# Altium footprint library Altium LCOGT PCB LIB.PCBLIB: 329 footprints (part 12 of 21)
Each footprint in its own frame and in the unit in brackets; x right, y up, seen from the top. Pads: shape width x height; smd on the part's side, far side on the other; paste and mask are expansions set on the pad; w line width, h text height; cw(c..) or ccw(c..) is an arc to the next point about the centre after c.
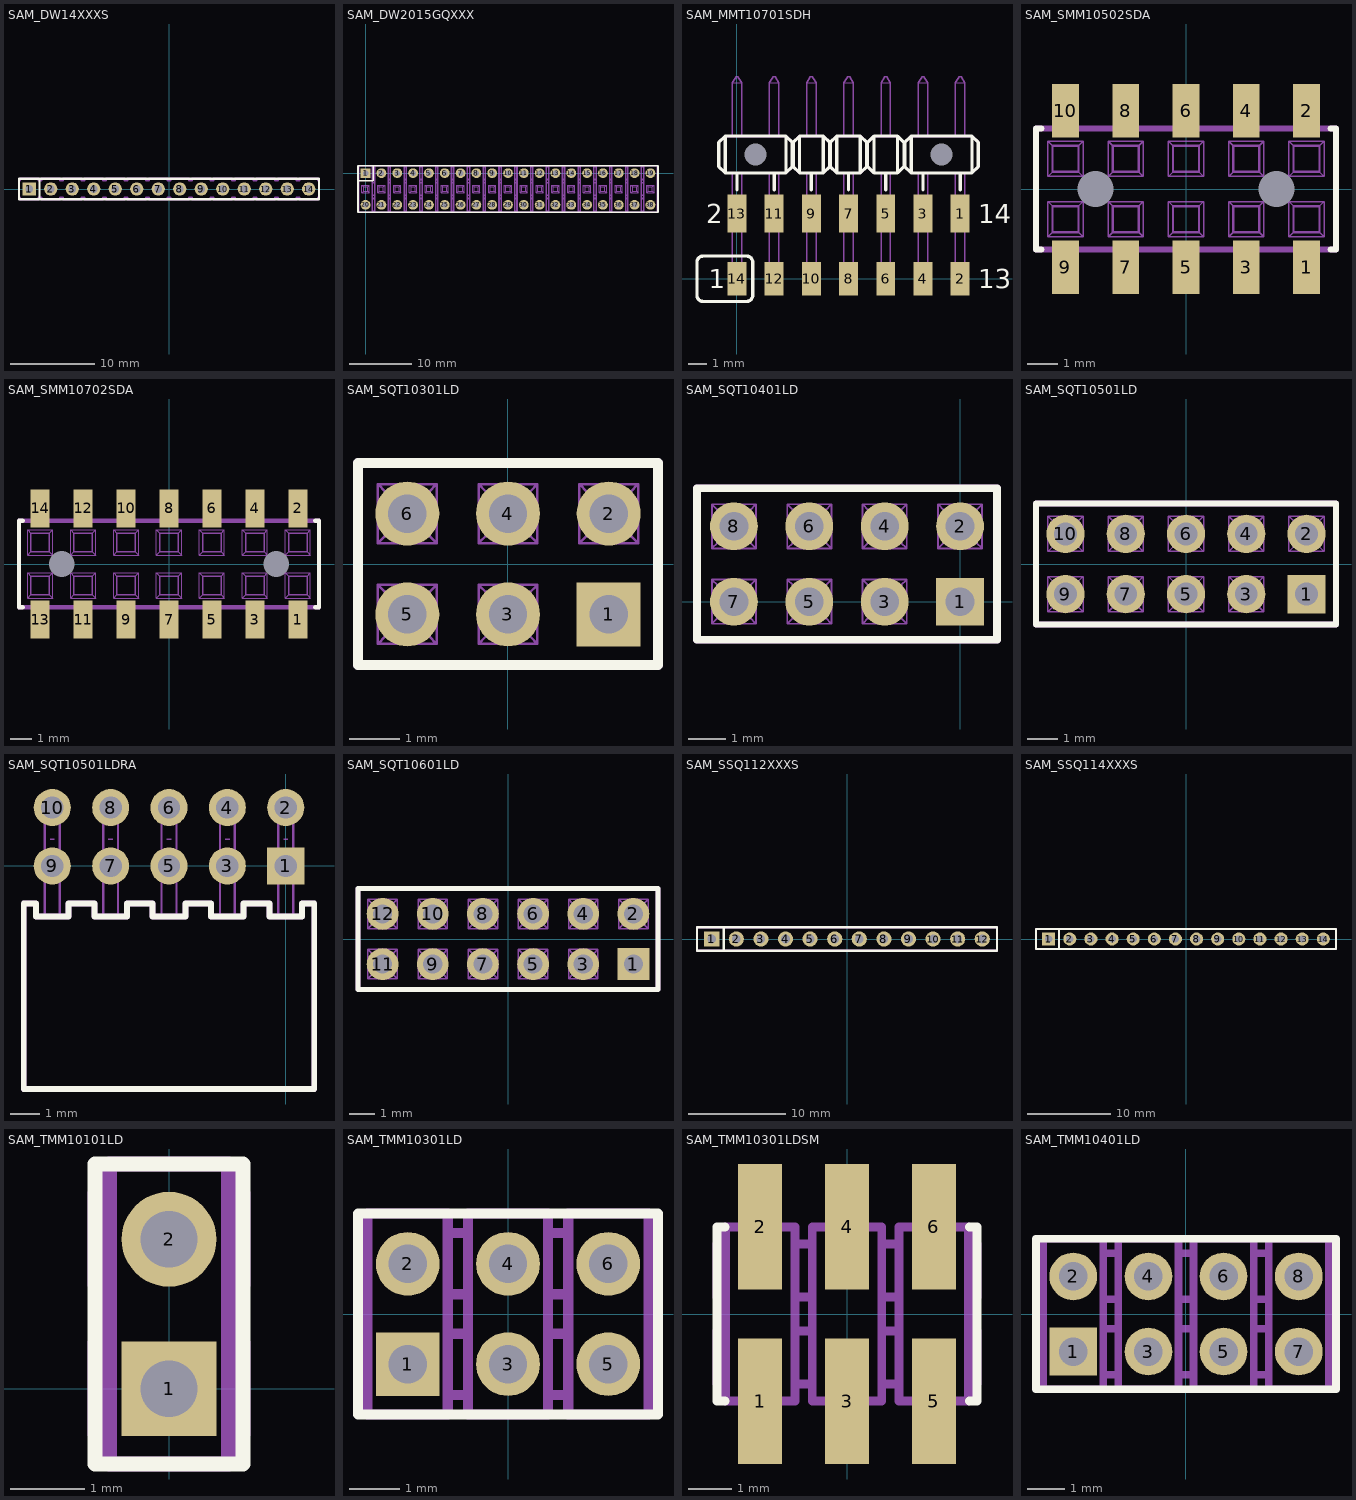
[diagram p11: the footprints below, top view; thin cyan lines are the x and y axes]

## SAM_DW14XXXS [mil] "Samtec board stacker header .100"
pads (14):
  rect 62x62 hole 35: 1(-650,0)
  round 62 hole 35: 2(-550,0) 3(-450,0) 4(-350,0) 5(-250,0) 6(-150,0) 7(-50,0) 8(50,0) 9(150,0) 10(250,0) 11(350,0) 12(450,0) 13(550,0) 14(650,0)
TopOverlay:
  lines w10: -602,-48 698,-48 698,48 -602,48 ; -602,-48 -698,-48 -698,48 -602,48 ; -602,-48 -602,48
Mechanical3:
  drawing of 230 lines, arcs and shapes, not listed

## SAM_DW2015GQXXX [mil]
pads (38):
  rect 62x62 hole 35: 1(0,0)
  round 62 hole 35: 2(100,0) 3(200,0) 4(300,0) 5(400,0) 6(500,0) 7(600,0) 8(700,0) 9(800,0) 10(900,0) 11(1000,0) 12(1100,0) 13(1200,0) 14(1300,0) 15(1400,0) 16(1500,0) 17(1600,0) 18(1700,0) 19(1800,0) 20(0,-200) 21(100,-200) 22(200,-200) 23(300,-200) 24(400,-200) 25(500,-200) 26(600,-200) 27(700,-200) 28(800,-200) 29(900,-200) 30(1000,-200) 31(1100,-200) 32(1200,-200) 33(1300,-200) 34(1400,-200) 35(1500,-200) 36(1600,-200) 37(1700,-200) 38(1800,-200)
TopOverlay:
  lines w10: -48,-48 48,-48 48,48 ; -48,-248 -48,48 1848,48 1848,-248 -48,-248
Mechanical3:
  drawing of 886 lines, arcs and shapes, not listed

## SAM_MMT10701SDH [mil]
pads (16):
  rect 40x80 smd: 1(472.44,138) 3(393.7,138) 5(314.96,138) 7(236.22,138) 9(157.48,138) 11(78.74,138) 13(0,138)
  rect 40x70 smd: 2(472.44,0) 4(393.7,0) 6(314.96,0) 8(236.22,0) 10(157.48,0) 12(78.74,0) 14(0,0)
  round 20 hole 47 unplated: ""(39.37,263)
  round 24 hole 47 unplated: ""(433.07,263)
TopOverlay:
  lines w7: 0,188 0,224 ; 78.74,188 78.74,224 ; 157.48,188 157.48,224 ; 236.22,188 236.22,224 ; 314.96,188 314.96,224 ; 393.7,188 393.7,224 ; 472.44,188 472.44,224 ; -25,224 103.74,224 ; -25,224 -25,302 ; -25,224 -38.5,237.5 -38.5,288.5 -25,302 ; -25,302 103.74,302 ; 103.74,224 117.24,237.5 117.24,288.5 103.74,302 ; 103.74,224 103.74,302 ; 132.48,224 132.48,302 ; 132.48,224 118.98,237.5 118.98,288.5 132.48,302 ; 132.48,224 182.48,224 ; 132.48,302 182.48,302 ; 182.48,224 195.98,237.5 195.98,288.5 182.48,302 ; 182.48,224 182.48,302 ; 211.22,224 211.22,302 ; 211.22,224 197.72,237.5 197.72,288.5 211.22,302 ; 211.22,224 261.22,224 ; 211.22,302 261.22,302 ; 261.22,224 274.72,237.5 274.72,288.5 261.22,302 ; 261.22,224 261.22,302 ; 289.96,224 289.96,302 ; 289.96,224 276.46,237.5 276.46,288.5 289.96,302 ; 289.96,224 339.96,224 ; 289.96,302 339.96,302 ; 339.96,224 353.46,237.5 353.46,288.5 339.96,302 ; 339.96,224 339.96,302 ; 355.2,237.5 368.7,224 ; 355.2,237.5 355.2,288.5 ; 355.2,237.5 355.2,288.5 ; 355.2,288.5 368.7,302 ; 368.7,224 368.7,302 ; 368.7,224 497.44,224 ; 368.7,302 497.44,302 ; 497.44,224 510.94,237.5 510.94,288.5 497.44,302 ; 497.44,224 497.44,302 ; -84.68,-35 ccw(c-71.68,-35) -71.68,-48 20.32,-48 ccw(c20.32,-35) 33.32,-35 33.32,35 ccw(c20.32,35) 20.32,48 -71.68,48 ccw(c-71.68,35) -84.68,35 -84.68,-35
  text "1" at -59.68,-20 h40
  text "2" at -64.68,118 h40
  text "13" at 510.44,-20 h40
  text "14" at 510.44,118 h40
Mechanical3:
  lines w2: -10,415 10,415 ; -3,28 3,28 ; -3,153 3,153 ; 68.74,415 88.74,415 ; 75.74,28 81.74,28 ; 75.74,153 81.74,153 ; 147.48,415 167.48,415 ; 154.48,28 160.48,28 ; 154.48,153 160.48,153 ; 226.22,415 246.22,415 ; 233.22,28 239.22,28 ; 233.22,153 239.22,153 ; 304.96,415 324.96,415 ; 311.96,28 317.96,28 ; 311.96,153 317.96,153 ; 383.7,415 403.7,415 ; 390.7,28 396.7,28 ; 390.7,153 396.7,153 ; 462.44,415 482.44,415 ; 469.44,28 475.44,28 ; 469.44,153 475.44,153
  lines w3: -10,224 -10,-21 10,-21 10,224 ; -10,302 -10,415 -2,428 2,428 10,415 10,302 ; 68.74,224 68.74,-21 88.74,-21 88.74,224 ; 68.74,302 68.74,415 76.74,428 80.74,428 88.74,415 88.74,302 ; 147.48,224 147.48,-21 167.48,-21 167.48,224 ; 147.48,302 147.48,415 155.48,428 159.48,428 167.48,415 167.48,302 ; 226.22,224 226.22,-21 246.22,-21 246.22,224 ; 226.22,302 226.22,415 234.22,428 238.22,428 246.22,415 246.22,302 ; 304.96,224 304.96,-21 324.96,-21 324.96,224 ; 304.96,302 304.96,415 312.96,428 316.96,428 324.96,415 324.96,302 ; 383.7,224 383.7,-21 403.7,-21 403.7,224 ; 383.7,302 383.7,415 391.7,428 395.7,428 403.7,415 403.7,302 ; 462.44,224 462.44,-21 482.44,-21 482.44,224 ; 462.44,302 462.44,415 470.44,428 474.44,428 482.44,415 482.44,302
  lines w4: -25,224 -25,302 ; 103.74,224 103.74,302 ; 132.48,224 132.48,302 ; 182.48,224 182.48,302 ; 211.22,224 211.22,302 ; 261.22,224 261.22,302 ; 289.96,224 289.96,302 ; 339.96,224 339.96,302 ; 368.7,224 368.7,302 ; 497.44,224 497.44,302
  lines w5: 353.46,237.5 353.46,288.5 ; 353.46,237.5 353.46,288.5 ; 353.46,237.5 339.96,224 289.96,224 276.46,237.5 276.46,288.5 289.96,302 339.96,302 353.46,288.5 ; 355.2,237.5 368.7,224 497.44,224 510.94,237.5 510.94,288.5 497.44,302 368.7,302 355.2,288.5 ; 355.2,237.5 355.2,288.5 ; 355.2,237.5 355.2,288.5 ; -38.5,237.5 -25,224 103.74,224 117.24,237.5 117.24,288.5 103.74,302 -25,302 -38.5,288.5 -38.5,237.5 ; 118.98,237.5 132.48,224 182.48,224 195.98,237.5 195.98,288.5 182.48,302 132.48,302 118.98,288.5 118.98,237.5 ; 197.72,237.5 211.22,224 261.22,224 274.72,237.5 274.72,288.5 261.22,302 211.22,302 197.72,288.5 197.72,237.5

## SAM_SMM10502SDA [mil]
pads (12):
  rect 35x70 smd: 1(157.48,-102) 2(157.48,102) 3(78.74,-102) 4(78.74,102) 5(0,-102) 6(0,102) 7(-78.74,-102) 8(-78.74,102) 9(-157.48,-102) 10(-157.48,102)
  round 20 hole 47 unplated: ""(-118.11,0) ""(118.11,0)
TopOverlay:
  lines w8: -189,-79 -196,-79 -196,79 -189,79 ; 189,-79 196,-79 196,79 189,79
Mechanical3:
  drawing of 208 lines, arcs and shapes, not listed

## SAM_SMM10702SDA [mil]
pads (16):
  rect 35x70 smd: 1(236.22,-102) 2(236.22,102) 3(157.48,-102) 4(157.48,102) 5(78.74,-102) 6(78.74,102) 7(0,-102) 8(0,102) 9(-78.74,-102) 10(-78.74,102) 11(-157.48,-102) 12(-157.48,102) 13(-236.22,-102) 14(-236.22,102)
  round 20 hole 47 unplated: ""(-196.85,0) ""(196.85,0)
TopOverlay:
  lines w8: -268.22,-79 -275,-79 -275,79 -268.22,79 ; 268.26,-79 275,-79 275,79 268.26,79
Mechanical3:
  drawing of 292 lines, arcs and shapes, not listed

## SAM_SQT10301LD [mm]
pads (6):
  rect 1.27x1.27 hole 0.762: 1(2,-1)
  round 1.27 hole 0.762: 2(2,1) 3(0,-1) 4(0,1) 5(-2,-1) 6(-2,1)
TopOverlay:
  lines w0.203: -2.978,-2.007 2.978,-2.007 2.978,2.007 -2.978,2.007 -2.978,-2.007
Mechanical3:
  lines w0.051: -2.432,-1.432 -2.584,-1.584 ; -2.432,-0.568 -2.584,-0.416 ; -2.432,0.568 -2.584,0.416 ; -2.432,1.432 -2.584,1.584 ; -1.568,-1.432 -1.416,-1.584 ; -1.568,-0.568 -1.416,-0.416 ; -1.568,0.568 -1.416,0.416 ; -1.568,1.432 -1.416,1.584 ; -0.432,-1.432 -0.584,-1.584 ; -0.432,-0.568 -0.584,-0.416 ; -0.432,0.568 -0.584,0.416 ; -0.432,1.432 -0.584,1.584 ; 0.432,-1.432 0.584,-1.584 ; 0.432,-0.568 0.584,-0.416 ; 0.432,0.568 0.584,0.416 ; 0.432,1.432 0.584,1.584 ; 1.568,-1.432 1.416,-1.584 ; 1.568,-0.568 1.416,-0.416 ; 1.568,0.568 1.416,0.416 ; 1.568,1.432 1.416,1.584 ; 2.432,-1.432 2.584,-1.584 ; 2.432,-0.568 2.584,-0.416 ; 2.432,0.568 2.584,0.416 ; 2.432,1.432 2.584,1.584 ; -2.584,-1.584 -2.584,-0.416 ; -2.584,-1.584 -1.416,-1.584 ; -2.584,-0.416 -1.416,-0.416 ; -2.584,0.416 -2.584,1.584 ; -2.584,0.416 -1.416,0.416 ; -2.584,1.584 -1.416,1.584 ; -1.416,-1.584 -1.416,-0.416 ; -1.416,0.416 -1.416,1.584 ; -0.584,-1.584 -0.584,-0.416 ; -0.584,-1.584 0.584,-1.584 ; -0.584,-0.416 0.584,-0.416 ; -0.584,0.416 -0.584,1.584 ; -0.584,0.416 0.584,0.416 ; -0.584,1.584 0.584,1.584 ; 0.584,-1.584 0.584,-0.416 ; 0.584,0.416 0.584,1.584 ; 1.416,-1.584 1.416,-0.416 ; 1.416,-1.584 2.584,-1.584 ; 1.416,-0.416 2.584,-0.416 ; 1.416,0.416 1.416,1.584 ; 1.416,0.416 2.584,0.416 ; 1.416,1.584 2.584,1.584 ; 2.584,-1.584 2.584,-0.416 ; 2.584,0.416 2.584,1.584
  lines w0.076: -2.432,-1.432 -2.432,-0.568 -1.568,-0.568 -1.568,-1.432 -2.432,-1.432 ; -2.432,0.568 -2.432,1.432 -1.568,1.432 -1.568,0.568 -2.432,0.568 ; -0.432,-1.432 -0.432,-0.568 0.432,-0.568 0.432,-1.432 -0.432,-1.432 ; -0.432,0.568 -0.432,1.432 0.432,1.432 0.432,0.568 -0.432,0.568 ; 1.568,-1.432 1.568,-0.568 2.432,-0.568 2.432,-1.432 1.568,-1.432 ; 1.568,0.568 1.568,1.432 2.432,1.432 2.432,0.568 1.568,0.568
  lines w0.203: -2.978,-2.007 -2.978,2.007 2.978,2.007 2.978,-2.007 -2.978,-2.007

## SAM_SQT10401LD [mm]
pads (8):
  rect 1.27x1.27 hole 0.762: 1(0,0)
  round 1.27 hole 0.762: 2(0,2) 3(-2,0) 4(-2,2) 5(-4,0) 6(-4,2) 7(-6,0) 8(-6,2)
TopOverlay:
  lines w0.203: -6.978,-1.007 0.978,-1.007 0.978,3.007 -6.978,3.007 -6.978,-1.007
Mechanical3:
  lines w0.051: -6.432,-0.432 -6.584,-0.584 ; -6.432,0.432 -6.584,0.584 ; -6.432,1.568 -6.584,1.416 ; -6.432,2.432 -6.584,2.584 ; -5.568,-0.432 -5.416,-0.584 ; -5.568,0.432 -5.416,0.584 ; -5.568,1.568 -5.416,1.416 ; -5.568,2.432 -5.416,2.584 ; -4.432,-0.432 -4.584,-0.584 ; -4.432,0.432 -4.584,0.584 ; -4.432,1.568 -4.584,1.416 ; -4.432,2.432 -4.584,2.584 ; -3.568,-0.432 -3.416,-0.584 ; -3.568,0.432 -3.416,0.584 ; -3.568,1.568 -3.416,1.416 ; -3.568,2.432 -3.416,2.584 ; -2.432,-0.432 -2.584,-0.584 ; -2.432,0.432 -2.584,0.584 ; -2.432,1.568 -2.584,1.416 ; -2.432,2.432 -2.584,2.584 ; -1.568,-0.432 -1.416,-0.584 ; -1.568,0.432 -1.416,0.584 ; -1.568,1.568 -1.416,1.416 ; -1.568,2.432 -1.416,2.584 ; -0.432,-0.432 -0.584,-0.584 ; -0.432,0.432 -0.584,0.584 ; -0.432,1.568 -0.584,1.416 ; -0.432,2.432 -0.584,2.584 ; 0.432,-0.432 0.584,-0.584 ; 0.432,0.432 0.584,0.584 ; 0.432,1.568 0.584,1.416 ; 0.432,2.432 0.584,2.584 ; -6.584,-0.584 -6.584,0.584 ; -6.584,-0.584 -5.416,-0.584 ; -6.584,0.584 -5.416,0.584 ; -6.584,1.416 -6.584,2.584 ; -6.584,1.416 -5.416,1.416 ; -6.584,2.584 -5.416,2.584 ; -5.416,-0.584 -5.416,0.584 ; -5.416,1.416 -5.416,2.584 ; -4.584,-0.584 -4.584,0.584 ; -4.584,-0.584 -3.416,-0.584 ; -4.584,0.584 -3.416,0.584 ; -4.584,1.416 -4.584,2.584 ; -4.584,1.416 -3.416,1.416 ; -4.584,2.584 -3.416,2.584 ; -3.416,-0.584 -3.416,0.584 ; -3.416,1.416 -3.416,2.584 ; -2.584,-0.584 -2.584,0.584 ; -2.584,-0.584 -1.416,-0.584 ; -2.584,0.584 -1.416,0.584 ; -2.584,1.416 -2.584,2.584 ; -2.584,1.416 -1.416,1.416 ; -2.584,2.584 -1.416,2.584 ; -1.416,-0.584 -1.416,0.584 ; -1.416,1.416 -1.416,2.584 ; -0.584,-0.584 -0.584,0.584 ; -0.584,-0.584 0.584,-0.584 ; -0.584,0.584 0.584,0.584 ; -0.584,1.416 -0.584,2.584 ; -0.584,1.416 0.584,1.416 ; -0.584,2.584 0.584,2.584 ; 0.584,-0.584 0.584,0.584 ; 0.584,1.416 0.584,2.584
  lines w0.076: -6.432,-0.432 -6.432,0.432 -5.568,0.432 -5.568,-0.432 -6.432,-0.432 ; -6.432,1.568 -6.432,2.432 -5.568,2.432 -5.568,1.568 -6.432,1.568 ; -4.432,-0.432 -4.432,0.432 -3.568,0.432 -3.568,-0.432 -4.432,-0.432 ; -4.432,1.568 -4.432,2.432 -3.568,2.432 -3.568,1.568 -4.432,1.568 ; -2.432,-0.432 -2.432,0.432 -1.568,0.432 -1.568,-0.432 -2.432,-0.432 ; -2.432,1.568 -2.432,2.432 -1.568,2.432 -1.568,1.568 -2.432,1.568 ; -0.432,-0.432 -0.432,0.432 0.432,0.432 0.432,-0.432 -0.432,-0.432 ; -0.432,1.568 -0.432,2.432 0.432,2.432 0.432,1.568 -0.432,1.568
  lines w0.203: -6.978,-1.007 -6.978,3.007 0.978,3.007 0.978,-1.007 -6.978,-1.007

## SAM_SQT10501LD [mm]
pads (10):
  rect 1.27x1.27 hole 0.762: 1(4,-1)
  round 1.27 hole 0.762: 2(4,1) 3(2,-1) 4(2,1) 5(0,-1) 6(0,1) 7(-2,-1) 8(-2,1) 9(-4,-1) 10(-4,1)
TopOverlay:
  lines w0.203: -4.978,-2.007 4.978,-2.007 4.978,2.007 -4.978,2.007 -4.978,-2.007
Mechanical3:
  lines w0.051: -4.432,-1.432 -4.584,-1.584 ; -4.432,-0.568 -4.584,-0.416 ; -4.432,0.568 -4.584,0.416 ; -4.432,1.432 -4.584,1.584 ; -3.568,-1.432 -3.416,-1.584 ; -3.568,-0.568 -3.416,-0.416 ; -3.568,0.568 -3.416,0.416 ; -3.568,1.432 -3.416,1.584 ; -2.432,-1.432 -2.584,-1.584 ; -2.432,-0.568 -2.584,-0.416 ; -2.432,0.568 -2.584,0.416 ; -2.432,1.432 -2.584,1.584 ; -1.568,-1.432 -1.416,-1.584 ; -1.568,-0.568 -1.416,-0.416 ; -1.568,0.568 -1.416,0.416 ; -1.568,1.432 -1.416,1.584 ; -0.432,-1.432 -0.584,-1.584 ; -0.432,-0.568 -0.584,-0.416 ; -0.432,0.568 -0.584,0.416 ; -0.432,1.432 -0.584,1.584 ; 0.432,-1.432 0.584,-1.584 ; 0.432,-0.568 0.584,-0.416 ; 0.432,0.568 0.584,0.416 ; 0.432,1.432 0.584,1.584 ; 1.568,-1.432 1.416,-1.584 ; 1.568,-0.568 1.416,-0.416 ; 1.568,0.568 1.416,0.416 ; 1.568,1.432 1.416,1.584 ; 2.432,-1.432 2.584,-1.584 ; 2.432,-0.568 2.584,-0.416 ; 2.432,0.568 2.584,0.416 ; 2.432,1.432 2.584,1.584 ; 3.568,-1.432 3.416,-1.584 ; 3.568,-0.568 3.416,-0.416 ; 3.568,0.568 3.416,0.416 ; 3.568,1.432 3.416,1.584 ; 4.432,-1.432 4.584,-1.584 ; 4.432,-0.568 4.584,-0.416 ; 4.432,0.568 4.584,0.416 ; 4.432,1.432 4.584,1.584 ; -4.584,-1.584 -4.584,-0.416 ; -4.584,-1.584 -3.416,-1.584 ; -4.584,-0.416 -3.416,-0.416 ; -4.584,0.416 -4.584,1.584 ; -4.584,0.416 -3.416,0.416 ; -4.584,1.584 -3.416,1.584 ; -3.416,-1.584 -3.416,-0.416 ; -3.416,0.416 -3.416,1.584 ; -2.584,-1.584 -2.584,-0.416 ; -2.584,-1.584 -1.416,-1.584 ; -2.584,-0.416 -1.416,-0.416 ; -2.584,0.416 -2.584,1.584 ; -2.584,0.416 -1.416,0.416 ; -2.584,1.584 -1.416,1.584 ; -1.416,-1.584 -1.416,-0.416 ; -1.416,0.416 -1.416,1.584 ; -0.584,-1.584 -0.584,-0.416 ; -0.584,-1.584 0.584,-1.584 ; -0.584,-0.416 0.584,-0.416 ; -0.584,0.416 -0.584,1.584 ; -0.584,0.416 0.584,0.416 ; -0.584,1.584 0.584,1.584 ; 0.584,-1.584 0.584,-0.416 ; 0.584,0.416 0.584,1.584 ; 1.416,-1.584 1.416,-0.416 ; 1.416,-1.584 2.584,-1.584 ; 1.416,-0.416 2.584,-0.416 ; 1.416,0.416 1.416,1.584 ; 1.416,0.416 2.584,0.416 ; 1.416,1.584 2.584,1.584 ; 2.584,-1.584 2.584,-0.416 ; 2.584,0.416 2.584,1.584 ; 3.416,-1.584 3.416,-0.416 ; 3.416,-1.584 4.584,-1.584 ; 3.416,-0.416 4.584,-0.416 ; 3.416,0.416 3.416,1.584 ; 3.416,0.416 4.584,0.416 ; 3.416,1.584 4.584,1.584 ; 4.584,-1.584 4.584,-0.416 ; 4.584,0.416 4.584,1.584
  lines w0.076: -4.432,-1.432 -4.432,-0.568 -3.568,-0.568 -3.568,-1.432 -4.432,-1.432 ; -4.432,0.568 -4.432,1.432 -3.568,1.432 -3.568,0.568 -4.432,0.568 ; -2.432,-1.432 -2.432,-0.568 -1.568,-0.568 -1.568,-1.432 -2.432,-1.432 ; -2.432,0.568 -2.432,1.432 -1.568,1.432 -1.568,0.568 -2.432,0.568 ; -0.432,-1.432 -0.432,-0.568 0.432,-0.568 0.432,-1.432 -0.432,-1.432 ; -0.432,0.568 -0.432,1.432 0.432,1.432 0.432,0.568 -0.432,0.568 ; 1.568,-1.432 1.568,-0.568 2.432,-0.568 2.432,-1.432 1.568,-1.432 ; 1.568,0.568 1.568,1.432 2.432,1.432 2.432,0.568 1.568,0.568 ; 3.568,-1.432 3.568,-0.568 4.432,-0.568 4.432,-1.432 3.568,-1.432 ; 3.568,0.568 3.568,1.432 4.432,1.432 4.432,0.568 3.568,0.568
  lines w0.203: -4.978,-2.007 -4.978,2.007 4.978,2.007 4.978,-2.007 -4.978,-2.007

## SAM_SQT10501LDRA [mm]
pads (10):
  rect 1.27x1.27 hole 0.762: 1(0,0)
  round 1.27 hole 0.762: 2(0,2) 3(-2,0) 4(-2,2) 5(-4,0) 6(-4,2) 7(-6,0) 8(-6,2) 9(-8,0) 10(-8,2)
TopOverlay:
  lines w0.203: -8.978,-7.645 0.978,-7.645 ; -8.978,-7.595 -8.978,-1.295 -8.559,-1.295 -8.559,-1.727 -7.441,-1.727 -7.441,-1.295 -6.559,-1.295 -6.559,-1.727 -5.441,-1.727 -5.441,-1.295 -4.559,-1.295 -4.559,-1.727 -3.441,-1.727 -3.441,-1.295 -2.559,-1.295 -2.559,-1.727 -1.441,-1.727 -1.441,-1.295 -0.559,-1.295 -0.559,-1.727 0.559,-1.727 0.559,-1.295 0.978,-1.295 0.978,-7.595
Mechanical3:
  lines w0.051: -8.076,0.914 -7.924,0.914 ; -6.076,0.914 -5.924,0.914 ; -4.076,0.914 -3.924,0.914 ; -2.076,0.914 -1.924,0.914 ; -0.076,0.914 0.076,0.914
  lines w0.076: -8.254,-1.727 -8.254,2.261 -7.746,2.261 -7.746,-1.727 ; -6.254,-1.727 -6.254,2.261 -5.746,2.261 -5.746,-1.727 ; -4.254,-1.727 -4.254,2.261 -3.746,2.261 -3.746,-1.727 ; -2.254,-1.727 -2.254,2.261 -1.746,2.261 -1.746,-1.727 ; -0.254,-1.727 -0.254,2.261 0.254,2.261 0.254,-1.727
  lines w0.203: -8.978,-7.645 0.978,-7.645 ; -8.978,-7.595 -8.978,-1.295 -8.559,-1.295 -8.559,-1.727 -7.441,-1.727 -7.441,-1.295 -6.559,-1.295 -6.559,-1.727 -5.441,-1.727 -5.441,-1.295 -4.559,-1.295 -4.559,-1.727 -3.441,-1.727 -3.441,-1.295 -2.559,-1.295 -2.559,-1.727 -1.441,-1.727 -1.441,-1.295 -0.559,-1.295 -0.559,-1.727 0.559,-1.727 0.559,-1.295 0.978,-1.295 0.978,-7.595

## SAM_SQT10601LD [mm]
pads (12):
  rect 1.27x1.27 hole 0.762: 1(5,-1)
  round 1.27 hole 0.762: 2(5,1) 3(3,-1) 4(3,1) 5(1,-1) 6(1,1) 7(-1,-1) 8(-1,1) 9(-3,-1) 10(-3,1) 11(-5,-1) 12(-5,1)
TopOverlay:
  lines w0.203: -5.978,-2.007 -5.978,2.007 5.978,2.007 5.978,-2.007 -5.978,-2.007
Mechanical3:
  lines w0.051: -5.432,-1.432 -5.584,-1.584 ; -5.432,-0.568 -5.584,-0.416 ; -5.432,0.568 -5.584,0.416 ; -5.432,1.432 -5.584,1.584 ; -4.568,-1.432 -4.416,-1.584 ; -4.568,-0.568 -4.416,-0.416 ; -4.568,0.568 -4.416,0.416 ; -4.568,1.432 -4.416,1.584 ; -3.432,-1.432 -3.584,-1.584 ; -3.432,-0.568 -3.584,-0.416 ; -3.432,0.568 -3.584,0.416 ; -3.432,1.432 -3.584,1.584 ; -2.568,-1.432 -2.416,-1.584 ; -2.568,-0.568 -2.416,-0.416 ; -2.568,0.568 -2.416,0.416 ; -2.568,1.432 -2.416,1.584 ; -1.432,-1.432 -1.584,-1.584 ; -1.432,-0.568 -1.584,-0.416 ; -1.432,0.568 -1.584,0.416 ; -1.432,1.432 -1.584,1.584 ; -0.568,-1.432 -0.416,-1.584 ; -0.568,-0.568 -0.416,-0.416 ; -0.568,0.568 -0.416,0.416 ; -0.568,1.432 -0.416,1.584 ; 0.568,-1.432 0.416,-1.584 ; 0.568,-0.568 0.416,-0.416 ; 0.568,0.568 0.416,0.416 ; 0.568,1.432 0.416,1.584 ; 1.432,-1.432 1.584,-1.584 ; 1.432,-0.568 1.584,-0.416 ; 1.432,0.568 1.584,0.416 ; 1.432,1.432 1.584,1.584 ; 2.568,-1.432 2.416,-1.584 ; 2.568,-0.568 2.416,-0.416 ; 2.568,0.568 2.416,0.416 ; 2.568,1.432 2.416,1.584 ; 3.432,-1.432 3.584,-1.584 ; 3.432,-0.568 3.584,-0.416 ; 3.432,0.568 3.584,0.416 ; 3.432,1.432 3.584,1.584 ; 4.568,-1.432 4.416,-1.584 ; 4.568,-0.568 4.416,-0.416 ; 4.568,0.568 4.416,0.416 ; 4.568,1.432 4.416,1.584 ; 5.432,-1.432 5.584,-1.584 ; 5.432,-0.568 5.584,-0.416 ; 5.432,0.568 5.584,0.416 ; 5.432,1.432 5.584,1.584 ; -5.584,-1.584 -5.584,-0.416 ; -5.584,-1.584 -4.416,-1.584 ; -5.584,-0.416 -4.416,-0.416 ; -5.584,0.416 -5.584,1.584 ; -5.584,0.416 -4.416,0.416 ; -5.584,1.584 -4.416,1.584 ; -4.416,-1.584 -4.416,-0.416 ; -4.416,0.416 -4.416,1.584 ; -3.584,-1.584 -3.584,-0.416 ; -3.584,-1.584 -2.416,-1.584 ; -3.584,-0.416 -2.416,-0.416 ; -3.584,0.416 -3.584,1.584 ; -3.584,0.416 -2.416,0.416 ; -3.584,1.584 -2.416,1.584 ; -2.416,-1.584 -2.416,-0.416 ; -2.416,0.416 -2.416,1.584 ; -1.584,-1.584 -1.584,-0.416 ; -1.584,-1.584 -0.416,-1.584 ; -1.584,-0.416 -0.416,-0.416 ; -1.584,0.416 -1.584,1.584 ; -1.584,0.416 -0.416,0.416 ; -1.584,1.584 -0.416,1.584 ; -0.416,-1.584 -0.416,-0.416 ; -0.416,0.416 -0.416,1.584 ; 0.416,-1.584 0.416,-0.416 ; 0.416,-1.584 1.584,-1.584 ; 0.416,-0.416 1.584,-0.416 ; 0.416,0.416 0.416,1.584 ; 0.416,0.416 1.584,0.416 ; 0.416,1.584 1.584,1.584 ; 1.584,-1.584 1.584,-0.416 ; 1.584,0.416 1.584,1.584 ; 2.416,-1.584 2.416,-0.416 ; 2.416,-1.584 3.584,-1.584 ; 2.416,-0.416 3.584,-0.416 ; 2.416,0.416 2.416,1.584 ; 2.416,0.416 3.584,0.416 ; 2.416,1.584 3.584,1.584 ; 3.584,-1.584 3.584,-0.416 ; 3.584,0.416 3.584,1.584 ; 4.416,-1.584 4.416,-0.416 ; 4.416,-1.584 5.584,-1.584 ; 4.416,-0.416 5.584,-0.416 ; 4.416,0.416 4.416,1.584 ; 4.416,0.416 5.584,0.416 ; 4.416,1.584 5.584,1.584 ; 5.584,-1.584 5.584,-0.416 ; 5.584,0.416 5.584,1.584
  lines w0.076: -5.432,-1.432 -5.432,-0.568 -4.568,-0.568 -4.568,-1.432 -5.432,-1.432 ; -5.432,0.568 -5.432,1.432 -4.568,1.432 -4.568,0.568 -5.432,0.568 ; -3.432,-1.432 -3.432,-0.568 -2.568,-0.568 -2.568,-1.432 -3.432,-1.432 ; -3.432,0.568 -3.432,1.432 -2.568,1.432 -2.568,0.568 -3.432,0.568 ; -1.432,-1.432 -1.432,-0.568 -0.568,-0.568 -0.568,-1.432 -1.432,-1.432 ; -1.432,0.568 -1.432,1.432 -0.568,1.432 -0.568,0.568 -1.432,0.568 ; 0.568,-1.432 0.568,-0.568 1.432,-0.568 1.432,-1.432 0.568,-1.432 ; 0.568,0.568 0.568,1.432 1.432,1.432 1.432,0.568 0.568,0.568 ; 2.568,-1.432 2.568,-0.568 3.432,-0.568 3.432,-1.432 2.568,-1.432 ; 2.568,0.568 2.568,1.432 3.432,1.432 3.432,0.568 2.568,0.568 ; 4.568,-1.432 4.568,-0.568 5.432,-0.568 5.432,-1.432 4.568,-1.432 ; 4.568,0.568 4.568,1.432 5.432,1.432 5.432,0.568 4.568,0.568
  lines w0.203: -5.978,-2.007 -5.978,2.007 5.978,2.007 5.978,-2.007 -5.978,-2.007

## SAM_SSQ112XXXS [mil] "Samtec socket strip .100 single row 12P"
pads (12):
  rect 62x62 hole 35: 1(-550,0)
  round 62 hole 35: 2(-450,0) 3(-350,0) 4(-250,0) 5(-150,0) 6(-50,0) 7(50,0) 8(150,0) 9(250,0) 10(350,0) 11(450,0) 12(550,0)
TopOverlay:
  lines w10: -502,-48 610,-48 610,48 -502,48 ; -502,-48 -610,-48 -610,48 -502,48 ; -502,-48 -502,48
Mechanical3:
  drawing of 152 lines, arcs and shapes, not listed

## SAM_SSQ114XXXS [mil] "Samtec socket strip .100 single row 12P"
pads (14):
  rect 62x62 hole 35: 1(-650,0)
  round 62 hole 35: 2(-550,0) 3(-450,0) 4(-350,0) 5(-250,0) 6(-150,0) 7(-50,0) 8(50,0) 9(150,0) 10(250,0) 11(350,0) 12(450,0) 13(550,0) 14(650,0)
TopOverlay:
  lines w10: -602,-48 710,-48 710,48 -602,48 ; -602,-48 -710,-48 -710,48 -602,48 ; -602,-48 -602,48
Mechanical3:
  drawing of 152 lines, arcs and shapes, not listed

## SAM_TMM10101LD [mil]
pads (2):
  rect 50x50 hole 30: 1(0,0)
  round 50 hole 30: 2(0,78.74)
TopOverlay:
  lines w8: -39.02,-39.63 -39.02,118.37 39.02,118.37 39.02,-39.63 -39.02,-39.63
Mechanical3:
  lines w2: -10,-10 -3,-3 ; -10,10 -3,3 ; -10,68.74 -3,75.74 ; -10,88.74 -3,81.74 ; 10,-10 3,-3 ; 10,10 3,3 ; 10,68.74 3,75.74 ; 10,88.74 3,81.74 ; -3,-3 3,-3 ; -3,-3 -3,3 ; -3,3 3,3 ; -3,75.74 3,75.74 ; -3,75.74 -3,81.74 ; -3,81.74 3,81.74 ; 3,-3 3,3 ; 3,75.74 3,81.74
  lines w4: -10,-10 10,-10 10,10 -10,10 -10,-10 ; -10,68.74 10,68.74 10,88.74 -10,88.74 -10,68.74
  lines w8: -31.5,-23.87 -39,-23.87 -39,24.13 -31.5,24.13 ; -31.5,54.87 -39,54.87 -39,102.87 -31.5,102.87 ; 31.5,-23.87 39,-23.87 39,24.13 31.5,24.13 ; 31.5,54.87 39,54.87 39,102.87 31.5,102.87 ; -31.5,-39.63 31.5,-39.63 31.5,118.37 -31.5,118.37 -31.5,-39.63

## SAM_TMM10301LD [mm]
pads (6):
  rect 1.27x1.27 hole 0.762: 1(-2,-1)
  round 1.27 hole 0.762: 2(-2,1) 3(0,-1) 4(0,1) 5(2,-1) 6(2,1)
TopOverlay:
  lines w0.203: -2.991,-2.007 2.991,-2.007 2.991,2.007 -2.991,2.007 -2.991,-2.007
Mechanical3:
  lines w0.051: -2.254,-1.254 -2.076,-1.076 ; -2.254,-0.746 -2.076,-0.924 ; -2.254,0.746 -2.076,0.924 ; -2.254,1.254 -2.076,1.076 ; -1.746,-1.254 -1.924,-1.076 ; -1.746,-0.746 -1.924,-0.924 ; -1.746,0.746 -1.924,0.924 ; -1.746,1.254 -1.924,1.076 ; -0.254,-1.254 -0.076,-1.076 ; -0.254,-0.746 -0.076,-0.924 ; -0.254,0.746 -0.076,0.924 ; -0.254,1.254 -0.076,1.076 ; 0.254,-1.254 0.076,-1.076 ; 0.254,-0.746 0.076,-0.924 ; 0.254,0.746 0.076,0.924 ; 0.254,1.254 0.076,1.076 ; 1.746,-1.254 1.924,-1.076 ; 1.746,-0.746 1.924,-0.924 ; 1.746,0.746 1.924,0.924 ; 1.746,1.254 1.924,1.076 ; 2.254,-1.254 2.076,-1.076 ; 2.254,-0.746 2.076,-0.924 ; 2.254,0.746 2.076,0.924 ; 2.254,1.254 2.076,1.076 ; -2.076,-1.076 -2.076,-0.924 ; -2.076,-1.076 -1.924,-1.076 ; -2.076,-0.924 -1.924,-0.924 ; -2.076,0.924 -2.076,1.076 ; -2.076,0.924 -1.924,0.924 ; -2.076,1.076 -1.924,1.076 ; -1.924,-1.076 -1.924,-0.924 ; -1.924,0.924 -1.924,1.076 ; -0.076,-1.076 -0.076,-0.924 ; -0.076,-1.076 0.076,-1.076 ; -0.076,-0.924 0.076,-0.924 ; -0.076,0.924 -0.076,1.076 ; -0.076,0.924 0.076,0.924 ; -0.076,1.076 0.076,1.076 ; 0.076,-1.076 0.076,-0.924 ; 0.076,0.924 0.076,1.076 ; 1.924,-1.076 1.924,-0.924 ; 1.924,-1.076 2.076,-1.076 ; 1.924,-0.924 2.076,-0.924 ; 1.924,0.924 1.924,1.076 ; 1.924,0.924 2.076,0.924 ; 1.924,1.076 2.076,1.076 ; 2.076,-1.076 2.076,-0.924 ; 2.076,0.924 2.076,1.076
  lines w0.102: -2.254,-1.254 -2.254,-0.746 -1.746,-0.746 -1.746,-1.254 -2.254,-1.254 ; -2.254,0.746 -2.254,1.254 -1.746,1.254 -1.746,0.746 -2.254,0.746 ; -0.254,-1.254 -0.254,-0.746 0.254,-0.746 0.254,-1.254 -0.254,-1.254 ; -0.254,0.746 -0.254,1.254 0.254,1.254 0.254,0.746 -0.254,0.746 ; 1.746,-1.254 1.746,-0.746 2.254,-0.746 2.254,-1.254 1.746,-1.254 ; 1.746,0.746 1.746,1.254 2.254,1.254 2.254,0.746 1.746,0.746
  lines w0.203: -2.8,-1.606 -2.991,-1.606 -2.991,-0.387 -2.8,-0.387 ; -2.8,0.394 -2.991,0.394 -2.991,1.613 -2.8,1.613 ; -1.194,-1.613 -0.8,-1.613 ; -1.194,-0.394 -0.8,-0.394 ; -1.194,0.394 -0.8,0.394 ; -1.194,1.613 -0.8,1.613 ; 0.806,-1.613 1.2,-1.613 ; 0.806,-0.394 1.2,-0.394 ; 0.806,0.394 1.2,0.394 ; 0.806,1.613 1.2,1.613 ; 2.8,-1.606 2.991,-1.606 2.991,-0.387 2.8,-0.387 ; 2.8,0.394 2.991,0.394 2.991,1.613 2.8,1.613 ; 1.2,-2.007 1.2,2.007 ; 1.2,-2.007 2.8,-2.007 ; 1.2,-2.007 2.8,-2.007 ; 1.2,2.007 2.8,2.007 ; 1.2,2.007 2.8,2.007 ; 2.8,-2.007 2.8,2.007 ; -2.8,-2.007 -2.8,2.007 -1.2,2.007 -1.2,-2.007 -2.8,-2.007 ; -0.8,-2.007 -0.8,2.007 0.8,2.007 0.8,-2.007 -0.8,-2.007

## SAM_TMM10301LDSM [mil]
pads (6):
  rect 40x114 smd: 1(-78.74,-79) 2(-78.74,79) 3(0,-79) 4(0,79) 5(78.74,-79) 6(78.74,79)
TopOverlay:
  lines w8: -110.74,-79 -117.76,-79 -117.76,79 -110.74,79 ; 110.78,-79 117.76,-79 117.76,79 110.78,79
Mechanical3:
  lines w2: -88.74,-123 -68.74,-123 ; -88.74,-49.37 -81.74,-42.37 ; -88.74,-29.37 -81.74,-36.37 ; -88.74,29.37 -81.74,36.37 ; -88.74,49.37 -81.74,42.37 ; -88.74,123 -68.74,123 ; -68.74,-49.37 -75.74,-42.37 ; -68.74,-29.37 -75.74,-36.37 ; -68.74,29.37 -75.74,36.37 ; -68.74,49.37 -75.74,42.37 ; -10,-123 10,-123 ; -10,-49.37 -3,-42.37 ; -10,-29.37 -3,-36.37 ; -10,29.37 -3,36.37 ; -10,49.37 -3,42.37 ; -10,123 10,123 ; 10,-49.37 3,-42.37 ; 10,-29.37 3,-36.37 ; 10,29.37 3,36.37 ; 10,49.37 3,42.37 ; 68.74,-123 88.74,-123 ; 68.74,-49.37 75.74,-42.37 ; 68.74,-29.37 75.74,-36.37 ; 68.74,29.37 75.74,36.37 ; 68.74,49.37 75.74,42.37 ; 68.74,123 88.74,123 ; 88.74,-49.37 81.74,-42.37 ; 88.74,-29.37 81.74,-36.37 ; 88.74,29.37 81.74,36.37 ; 88.74,49.37 81.74,42.37 ; -81.74,-42.37 -81.74,-36.37 ; -81.74,-42.37 -75.74,-42.37 ; -81.74,-36.37 -75.74,-36.37 ; -81.74,36.37 -81.74,42.37 ; -81.74,36.37 -75.74,36.37 ; -81.74,42.37 -75.74,42.37 ; -75.74,-42.37 -75.74,-36.37 ; -75.74,36.37 -75.74,42.37 ; -3,-42.37 -3,-36.37 ; -3,-42.37 3,-42.37 ; -3,-36.37 3,-36.37 ; -3,36.37 -3,42.37 ; -3,36.37 3,36.37 ; -3,42.37 3,42.37 ; 3,-42.37 3,-36.37 ; 3,36.37 3,42.37 ; 75.74,-42.37 75.74,-36.37 ; 75.74,-42.37 81.74,-42.37 ; 75.74,-36.37 81.74,-36.37 ; 75.74,36.37 75.74,42.37 ; 75.74,36.37 81.74,36.37 ; 75.74,42.37 81.74,42.37 ; 81.74,-42.37 81.74,-36.37 ; 81.74,36.37 81.74,42.37
  lines w4: -88.74,-79 -88.74,-123 -81.74,-130 -75.74,-130 -68.74,-123 -68.74,-79 ; -88.74,79 -88.74,123 -81.74,130 -75.74,130 -68.74,123 -68.74,79 ; -10,-79 -10,-123 -3,-130 3,-130 10,-123 10,-79 ; -10,79 -10,123 -3,130 3,130 10,123 10,79 ; 68.74,-79 68.74,-123 75.74,-130 81.74,-130 88.74,-123 88.74,-79 ; 68.74,79 68.74,123 75.74,130 81.74,130 88.74,123 88.74,79 ; -88.74,-49.37 -88.74,-29.37 -68.74,-29.37 -68.74,-49.37 -88.74,-49.37 ; -88.74,29.37 -88.74,49.37 -68.74,49.37 -68.74,29.37 -88.74,29.37 ; -10,-49.37 -10,-29.37 10,-29.37 10,-49.37 -10,-49.37 ; -10,29.37 -10,49.37 10,49.37 10,29.37 -10,29.37 ; 68.74,-49.37 68.74,-29.37 88.74,-29.37 88.74,-49.37 68.74,-49.37 ; 68.74,29.37 68.74,49.37 88.74,49.37 88.74,29.37 68.74,29.37
  lines w8: -110.24,-63.24 -117.74,-63.24 -117.74,-15.24 -110.24,-15.24 ; -110.24,15.5 -117.74,15.5 -117.74,63.5 -110.24,63.5 ; -47,-63.5 -31.5,-63.5 ; -47,-15.5 -31.5,-15.5 ; -47,15.5 -31.5,15.5 ; -47,63.5 -31.5,63.5 ; 31.74,-63.5 47.24,-63.5 ; 31.74,-15.5 47.24,-15.5 ; 31.74,15.5 47.24,15.5 ; 31.74,63.5 47.24,63.5 ; 110.24,-63.24 117.74,-63.24 117.74,-15.24 110.24,-15.24 ; 110.24,15.5 117.74,15.5 117.74,63.5 110.24,63.5 ; -110.24,-79 -110.24,79 -47.24,79 -47.24,-79 -110.24,-79 ; -31.5,-79 -31.5,79 31.5,79 31.5,-79 -31.5,-79 ; 47.24,-79 47.24,79 110.24,79 110.24,-79 47.24,-79

## SAM_TMM10401LD [mm]
pads (8):
  rect 1.27x1.27 hole 0.762: 1(-3,-1)
  round 1.27 hole 0.762: 2(-3,1) 3(-1,-1) 4(-1,1) 5(1,-1) 6(1,1) 7(3,-1) 8(3,1)
TopOverlay:
  lines w0.203: -3.991,-2.007 -3.991,2.007 3.991,2.007 3.991,-2.007 -3.991,-2.007
Mechanical3:
  lines w0.051: -3.254,-1.254 -3.076,-1.076 ; -3.254,-0.746 -3.076,-0.924 ; -3.254,0.746 -3.076,0.924 ; -3.254,1.254 -3.076,1.076 ; -2.746,-1.254 -2.924,-1.076 ; -2.746,-0.746 -2.924,-0.924 ; -2.746,0.746 -2.924,0.924 ; -2.746,1.254 -2.924,1.076 ; -1.254,-1.254 -1.076,-1.076 ; -1.254,-0.746 -1.076,-0.924 ; -1.254,0.746 -1.076,0.924 ; -1.254,1.254 -1.076,1.076 ; -0.746,-1.254 -0.924,-1.076 ; -0.746,-0.746 -0.924,-0.924 ; -0.746,0.746 -0.924,0.924 ; -0.746,1.254 -0.924,1.076 ; 0.746,-1.254 0.924,-1.076 ; 0.746,-0.746 0.924,-0.924 ; 0.746,0.746 0.924,0.924 ; 0.746,1.254 0.924,1.076 ; 1.254,-1.254 1.076,-1.076 ; 1.254,-0.746 1.076,-0.924 ; 1.254,0.746 1.076,0.924 ; 1.254,1.254 1.076,1.076 ; 2.746,-1.254 2.924,-1.076 ; 2.746,-0.746 2.924,-0.924 ; 2.746,0.746 2.924,0.924 ; 2.746,1.254 2.924,1.076 ; 3.254,-1.254 3.076,-1.076 ; 3.254,-0.746 3.076,-0.924 ; 3.254,0.746 3.076,0.924 ; 3.254,1.254 3.076,1.076 ; -3.076,-1.076 -2.924,-1.076 ; -3.076,-1.076 -3.076,-0.924 ; -3.076,-0.924 -2.924,-0.924 ; -3.076,0.924 -2.924,0.924 ; -3.076,0.924 -3.076,1.076 ; -3.076,1.076 -2.924,1.076 ; -2.924,-1.076 -2.924,-0.924 ; -2.924,0.924 -2.924,1.076 ; -1.076,-1.076 -0.924,-1.076 ; -1.076,-1.076 -1.076,-0.924 ; -1.076,-0.924 -0.924,-0.924 ; -1.076,0.924 -0.924,0.924 ; -1.076,0.924 -1.076,1.076 ; -1.076,1.076 -0.924,1.076 ; -0.924,-1.076 -0.924,-0.924 ; -0.924,0.924 -0.924,1.076 ; 0.924,-1.076 1.076,-1.076 ; 0.924,-1.076 0.924,-0.924 ; 0.924,-0.924 1.076,-0.924 ; 0.924,0.924 1.076,0.924 ; 0.924,0.924 0.924,1.076 ; 0.924,1.076 1.076,1.076 ; 1.076,-1.076 1.076,-0.924 ; 1.076,0.924 1.076,1.076 ; 2.924,-1.076 3.076,-1.076 ; 2.924,-1.076 2.924,-0.924 ; 2.924,-0.924 3.076,-0.924 ; 2.924,0.924 3.076,0.924 ; 2.924,0.924 2.924,1.076 ; 2.924,1.076 3.076,1.076 ; 3.076,-1.076 3.076,-0.924 ; 3.076,0.924 3.076,1.076
  lines w0.102: -3.254,-1.254 -2.746,-1.254 -2.746,-0.746 -3.254,-0.746 -3.254,-1.254 ; -3.254,0.746 -2.746,0.746 -2.746,1.254 -3.254,1.254 -3.254,0.746 ; -1.254,-1.254 -0.746,-1.254 -0.746,-0.746 -1.254,-0.746 -1.254,-1.254 ; -1.254,0.746 -0.746,0.746 -0.746,1.254 -1.254,1.254 -1.254,0.746 ; 0.746,-1.254 1.254,-1.254 1.254,-0.746 0.746,-0.746 0.746,-1.254 ; 0.746,0.746 1.254,0.746 1.254,1.254 0.746,1.254 0.746,0.746 ; 2.746,-1.254 3.254,-1.254 3.254,-0.746 2.746,-0.746 2.746,-1.254 ; 2.746,0.746 3.254,0.746 3.254,1.254 2.746,1.254 2.746,0.746
  lines w0.203: -3.8,-1.606 -3.991,-1.606 -3.991,-0.387 -3.8,-0.387 ; -3.8,0.394 -3.991,0.394 -3.991,1.613 -3.8,1.613 ; -2.194,-1.613 -1.8,-1.613 ; -2.194,-0.394 -1.8,-0.394 ; -2.194,0.394 -1.8,0.394 ; -2.194,1.613 -1.8,1.613 ; -0.194,-1.613 0.2,-1.613 ; -0.194,-0.394 0.2,-0.394 ; -0.194,0.394 0.2,0.394 ; -0.194,1.613 0.2,1.613 ; 1.8,-1.613 2.194,-1.613 ; 1.8,-0.394 2.194,-0.394 ; 1.8,0.394 2.194,0.394 ; 1.8,1.613 2.194,1.613 ; 3.8,-1.606 3.991,-1.606 3.991,-0.387 3.8,-0.387 ; 3.8,0.394 3.991,0.394 3.991,1.613 3.8,1.613 ; -3.8,-2.007 -2.2,-2.007 -2.2,2.007 -3.8,2.007 -3.8,-2.007 ; -1.8,-2.007 -0.2,-2.007 -0.2,2.007 -1.8,2.007 -1.8,-2.007 ; 0.2,-2.007 1.8,-2.007 1.8,2.007 0.2,2.007 0.2,-2.007 ; 2.2,-2.007 3.8,-2.007 3.8,2.007 2.2,2.007 2.2,-2.007